# EAGLE library part ESP32 (library espressif)
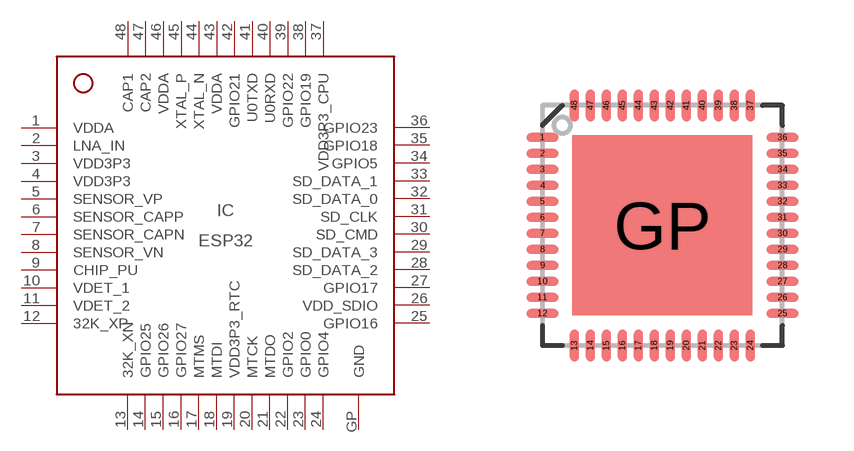
[diagram p0: symbol with the pads of ESP32_6X6_QFN48; footprint ESP32_6X6_QFN48]

Designator prefix IC

## ESP32  [ESP32_6X6_QFN48]
1  VDDA  pwr
2  LNA_IN  in
3  VDD3P3  pwr
4  VDD3P3  pwr
5  SENSOR_VP  in
6  SENSOR_CAPP  in
7  SENSOR_CAPN  in
8  SENSOR_VN  in
9  CHIP_PU  in
10  VDET_1  in
11  VDET_2  in
12  32K_XP
13  32K_XN
14  GPIO25
15  GPIO26
16  GPIO27
17  MTMS
18  MTDI
19  VDD3P3_RTC  pwr
20  MTCK
21  MTDO
22  GPIO2
23  GPIO0
24  GPIO4
25  GPIO16
26  VDD_SDIO  sup
27  GPIO17
28  SD_DATA_2
29  SD_DATA_3
30  SD_CMD
31  SD_CLK
32  SD_DATA_0
33  SD_DATA_1
34  GPIO5
35  GPIO18
36  GPIO23
37  VDD3P3_CPU  pwr
38  GPIO19
39  GPIO22
40  U0RXD
41  U0TXD
42  GPIO21
43  VDDA  pwr
44  XTAL_N  out
45  XTAL_P  in
46  VDDA  pwr
47  CAP2  in
48  CAP1  in
GP  GND  pwr

## Footprint ESP32_6X6_QFN48 (pad centres in mm)
smd 0.8 x 0.229: 1 -3,2.2; 2 -3,1.8; 3 -3,1.4; 4 -3,1; 5 -3,0.6; 6 -3,0.2; 7 -3,-0.2; 8 -3,-0.6; 9 -3,-1; 10 -3,-1.4; 11 -3,-1.8; 12 -3,-2.2; 25 3,-2.2; 26 3,-1.8; 27 3,-1.4; 28 3,-1; 29 3,-0.6; 30 3,-0.2; 31 3,0.2; 32 3,0.6; 33 3,1; 34 3,1.4; 35 3,1.8; 36 3,2.2
smd 0.229 x 0.8: 13 -2.2,-3; 14 -1.8,-3; 15 -1.4,-3; 16 -1,-3; 17 -0.6,-3; 18 -0.2,-3; 19 0.2,-3; 20 0.6,-3; 21 1,-3; 22 1.4,-3; 23 1.8,-3; 24 2.2,-3; 37 2.2,3; 38 1.8,3; 39 1.4,3; 40 1,3; 41 0.6,3; 42 0.2,3; 43 -0.2,3; 44 -0.6,3; 45 -1,3; 46 -1.4,3; 47 -1.8,3; 48 -2.2,3
smd 4.5 x 4.5: GP 0,0